# Altium integrated library Altium_WE-XTAL (rev19a).IntLib: 251 symbols (part 1 of 4)
Pins are listed as number, name and electrical type; pins without a type are passive.

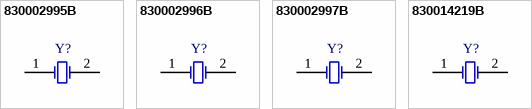
[diagram p0: symbols 830002995B to 830014219B]

## 830002995B
designator Y?, comment 32.768kHz, +/-20ppm, 12.5pF  (value not drawn)
WE-XTAL Quartz Crystal, size WATCH, 32.768kHz, +/-20ppm, 12.5pF; Part Number: 830002995B; ComponentLink1Description: Manufacturer; ComponentLink1URL: http://www.we-online.de; ComponentLink2Description: Datasheet; ComponentLink2URL: https://katalog.we-online.com/pbs/datasheet/830002995B.pdf; Published Date: March 2019; Publisher: Wurth Elektronik; Size: WATCH; Frequency Stability: -; Operating Temperature: -40 up to +85degC; Mounting Technology: THT; Packaging: Bulk; Load Capacitance: 12.5pF; Frequency Tolerance: +/-20ppm; Frequency: 32.768kHz
footprint WE-XTAL_WATCH_3x8.2
pins: 1 OSC1, 2 OSC2

## 830002996B
designator Y?, comment 32.768kHz, +/-15ppm, 12.5pF  (value not drawn)
WE-XTAL Quartz Crystal, size WATCH, 32.768kHz, +/-15ppm, 12.5pF; Part Number: 830002996B; ComponentLink1Description: Manufacturer; ComponentLink1URL: http://www.we-online.de; ComponentLink2Description: Datasheet; ComponentLink2URL: https://katalog.we-online.com/pbs/datasheet/830002996B.pdf; Published Date: March 2019; Publisher: Wurth Elektronik; Size: WATCH; Frequency Stability: -; Operating Temperature: -40 up to +85degC; Mounting Technology: THT; Packaging: Bulk; Load Capacitance: 12.5pF; Frequency Tolerance: +/-15ppm; Frequency: 32.768kHz
footprint WE-XTAL_WATCH_3x8.2
pins: 1 OSC1, 2 OSC2

## 830002997B
designator Y?, comment 32.768kHz, +/-20ppm, 12.5pF  (value not drawn)
WE-XTAL Quartz Crystal, size WATCH, 32.768kHz, +/-20ppm, 12.5pF; Part Number: 830002997B; ComponentLink1Description: Manufacturer; ComponentLink1URL: http://www.we-online.de; ComponentLink2Description: Datasheet; ComponentLink2URL: https://katalog.we-online.com/pbs/datasheet/830002997B.pdf; Published Date: March 2019; Publisher: Wurth Elektronik; Size: WATCH; Frequency Stability: -; Operating Temperature: -40 up to +85degC; Mounting Technology: THT; Packaging: Bulk; Load Capacitance: 12.5pF; Frequency Tolerance: +/-20ppm; Frequency: 32.768kHz
footprint WE-XTAL_WATCH_2x6.2
pins: 1 OSC1, 2 OSC2

## 830014219B
designator Y?, comment 32.768kHz, +/-20ppm, 6pF  (value not drawn)
WE-XTAL Quartz Crystal, size WATCH, 32.768kHz, +/-20ppm, 6pF; Part Number: 830014219B; ComponentLink1Description: Manufacturer; ComponentLink1URL: http://www.we-online.de; ComponentLink2Description: Datasheet; ComponentLink2URL: https://katalog.we-online.com/pbs/datasheet/830014219B.pdf; Published Date: March 2019; Publisher: Wurth Elektronik; Size: WATCH; Frequency Stability: -; Operating Temperature: -40 up to +85degC; Mounting Technology: THT; Packaging: Bulk; Load Capacitance: 6pF; Frequency Tolerance: +/-20ppm; Frequency: 32.768kHz
footprint WE-XTAL_WATCH_2x6.2
pins: 1 OSC1, 2 OSC2


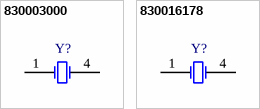
[diagram p1: symbols 830003000 to 830016178]

## 830003000
designator Y?, comment 32.768kHz, +/-20ppm, 12.5pF  (value not drawn)
WE-XTAL Quartz Crystal, size 85SMX, 32.768kHz, +/-20ppm, 12.5pF; Part Number: 830003000; ComponentLink1Description: Manufacturer; ComponentLink1URL: http://www.we-online.de; ComponentLink2Description: Datasheet; ComponentLink2URL: https://katalog.we-online.com/pbs/datasheet/830003000.pdf; Published Date: March 2019; Publisher: Wurth Elektronik; Size: 85SMX; Frequency Stability: -; Operating Temperature: -40 up to +85degC; Mounting Technology: SMT; Packaging: Tape and Reel; Load Capacitance: 12.5pF; Frequency Tolerance: +/-20ppm; Frequency: 32.768kHz
footprint WE-XTAL_85SMX
pins: 1 OSC1, 4 OSC2

## 830016178
designator Y?, comment 32.768kHz, +/-20ppm, 6pF  (value not drawn)
WE-XTAL Quartz Crystal, size 85SMX, 32.768kHz, +/-20ppm, 6pF; Part Number: 830016178; ComponentLink1Description: Manufacturer; ComponentLink1URL: http://www.we-online.de; ComponentLink2Description: Datasheet; ComponentLink2URL: https://katalog.we-online.com/pbs/datasheet/830016178.pdf; Published Date: March 2019; Publisher: Wurth Elektronik; Size: 85SMX; Frequency Stability: -; Operating Temperature: -40 up to +85degC; Mounting Technology: SMT; Packaging: Tape and Reel; Load Capacitance: 6pF; Frequency Tolerance: +/-20ppm; Frequency: 32.768kHz
footprint WE-XTAL_85SMX
pins: 1 OSC1, 4 OSC2


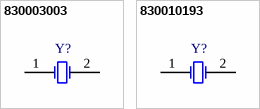
[diagram p2: symbols 830003003 to 830010193]

## 830003003
designator Y?, comment 32.768kHz, +/-20ppm, 12.5pF  (value not drawn)
WE-XTAL Quartz Crystal, size 91SMX, 32.768kHz, +/-20ppm, 12.5pF; Part Number: 830003003; ComponentLink1Description: Manufacturer; ComponentLink1URL: http://www.we-online.de; ComponentLink2Description: Datasheet; ComponentLink2URL: https://katalog.we-online.com/pbs/datasheet/830003003.pdf; Published Date: March 2019; Publisher: Wurth Elektronik; Size: 91SMX; Frequency Stability: -; Operating Temperature: -40 up to +85degC; Mounting Technology: SMT; Packaging: Tape and Reel; Load Capacitance: 12.5pF; Frequency Tolerance: +/-20ppm; Frequency: 32.768kHz
footprint WE-XTAL_91SMX
pins: 1 OSC1, 2 OSC2

## 830010193
designator Y?, comment 32.768kHz, +/-20ppm, 6pF  (value not drawn)
WE-XTAL Quartz Crystal, size 91SMX, 32.768kHz, +/-20ppm, 6pF; Part Number: 830010193; ComponentLink1Description: Manufacturer; ComponentLink1URL: http://www.we-online.de; ComponentLink2Description: Datasheet; ComponentLink2URL: https://katalog.we-online.com/pbs/datasheet/830010193.pdf; Published Date: March 2019; Publisher: Wurth Elektronik; Size: 91SMX; Frequency Stability: -; Operating Temperature: -40 up to +85degC; Mounting Technology: SMT; Packaging: Tape and Reel; Load Capacitance: 6pF; Frequency Tolerance: +/-20ppm; Frequency: 32.768kHz
footprint WE-XTAL_91SMX
pins: 1 OSC1, 2 OSC2


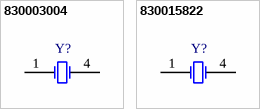
[diagram p3: symbols 830003004 to 830015822]

## 830003004
designator Y?, comment 32.768kHz, +/-20ppm, 12.5pF  (value not drawn)
WE-XTAL Quartz Crystal, size 90SMX, 32.768kHz, +/-20ppm, 12.5pF; Part Number: 830003004; ComponentLink1Description: Manufacturer; ComponentLink1URL: http://www.we-online.de; ComponentLink2Description: Datasheet; ComponentLink2URL: https://katalog.we-online.com/pbs/datasheet/830003004.pdf; Published Date: March 2019; Publisher: Wurth Elektronik; Size: 90SMX; Frequency Stability: -; Operating Temperature: -40 up to +85degC; Mounting Technology: SMT; Packaging: Tape and Reel; Load Capacitance: 12.5pF; Frequency Tolerance: +/-20ppm; Frequency: 32.768kHz
footprint WE-XTAL_90SMX
pins: 1 OSC1, 4 OSC2

## 830015822
designator Y?, comment 32.768kHz, +/-20ppm, 6pF  (value not drawn)
WE-XTAL Quartz Crystal, size 90SMX, 32.768kHz, +/-20ppm, 6pF; Part Number: 830015822; ComponentLink1Description: Manufacturer; ComponentLink1URL: http://www.we-online.de; ComponentLink2Description: Datasheet; ComponentLink2URL: https://katalog.we-online.com/pbs/datasheet/830015822.pdf; Published Date: March 2019; Publisher: Wurth Elektronik; Size: 90SMX; Frequency Stability: -; Operating Temperature: -40 up to +85degC; Mounting Technology: SMT; Packaging: Tape and Reel; Load Capacitance: 6pF; Frequency Tolerance: +/-20ppm; Frequency: 32.768kHz
footprint WE-XTAL_90SMX
pins: 1 OSC1, 4 OSC2


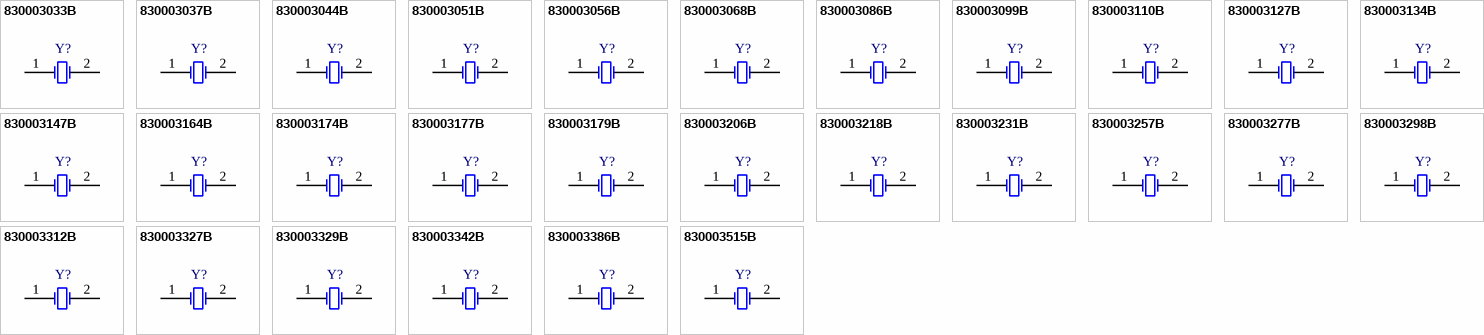
[diagram p4: symbols 830003033B to 830003515B]

## 830003033B
designator Y?, comment 1.8432MHz, +/-20ppm, 30pF  (value not drawn)
WE-XTAL Quartz Crystal, size HC49, 1.8432MHz, +/-20ppm, 30pF; Part Number: 830003033B; Frequency Stability: 50ppm; ComponentLink1Description: Manufacturer; ComponentLink1URL: http://www.we-online.de; ComponentLink2Description: Datasheet; ComponentLink2URL: https://katalog.we-online.com/pbs/datasheet/830003033B.pdf; Published Date: March 2019; Publisher: Wurth Elektronik; Size: HC49; Operating Temperature: -10 up to +60degC; Mounting Technology: THT; Packaging: Bulk; Load Capacitance: 30pF; Frequency Tolerance: +/-20ppm; Frequency: 1.8432MHz
footprint WE-XTAL_HC49
pins: 1 OSC1, 2 OSC2

## 830003037B
designator Y?, comment 2MHz, +/-50ppm, 20pF  (value not drawn)
WE-XTAL Quartz Crystal, size HC49, 2MHz, +/-50ppm, 20pF; Part Number: 830003037B; Frequency Stability: 100ppm; ComponentLink1Description: Manufacturer; ComponentLink1URL: http://www.we-online.de; ComponentLink2Description: Datasheet; ComponentLink2URL: https://katalog.we-online.com/pbs/datasheet/830003037B.pdf; Published Date: March 2019; Publisher: Wurth Elektronik; Size: HC49; Operating Temperature: 0 up to +50degC; Mounting Technology: THT; Packaging: Bulk; Load Capacitance: 20pF; Frequency Tolerance: +/-50ppm; Frequency: 2MHz
footprint WE-XTAL_HC49
pins: 1 OSC1, 2 OSC2

## 830003044B
designator Y?, comment 2.4576MHz, +/-20ppm, 30pF  (value not drawn)
WE-XTAL Quartz Crystal, size HC49, 2.4576MHz, +/-20ppm, 30pF; Part Number: 830003044B; Frequency Stability: 50ppm; ComponentLink1Description: Manufacturer; ComponentLink1URL: http://www.we-online.de; ComponentLink2Description: Datasheet; ComponentLink2URL: https://katalog.we-online.com/pbs/datasheet/830003044B.pdf; Published Date: March 2019; Publisher: Wurth Elektronik; Size: HC49; Operating Temperature: -10 up to +60degC; Mounting Technology: THT; Packaging: Bulk; Load Capacitance: 30pF; Frequency Tolerance: +/-20ppm; Frequency: 2.4576MHz
footprint WE-XTAL_HC49
pins: 1 OSC1, 2 OSC2

## 830003051B
designator Y?, comment 3.2768MHz, +/-20ppm, 12pF  (value not drawn)
WE-XTAL Quartz Crystal, size HC49, 3.2768MHz, +/-20ppm, 12pF; Part Number: 830003051B; Frequency Stability: 30ppm; ComponentLink1Description: Manufacturer; ComponentLink1URL: http://www.we-online.de; ComponentLink2Description: Datasheet; ComponentLink2URL: https://katalog.we-online.com/pbs/datasheet/830003051B.pdf; Published Date: March 2019; Publisher: Wurth Elektronik; Size: HC49; Operating Temperature: -10 up to +60degC; Mounting Technology: THT; Packaging: Bulk; Load Capacitance: 12pF; Frequency Tolerance: +/-20ppm; Frequency: 3.2768MHz
footprint WE-XTAL_HC49
pins: 1 OSC1, 2 OSC2

## 830003056B
designator Y?, comment 3.579545MHz, +/-20ppm, 20pF  (value not drawn)
WE-XTAL Quartz Crystal, size HC49, 3.579545MHz, +/-20ppm, 20pF; Part Number: 830003056B; Frequency Stability: 50ppm; ComponentLink1Description: Manufacturer; ComponentLink1URL: http://www.we-online.de; ComponentLink2Description: Datasheet; ComponentLink2URL: https://katalog.we-online.com/pbs/datasheet/830003056B.pdf; Published Date: March 2019; Publisher: Wurth Elektronik; Size: HC49; Operating Temperature: -10 up to +60degC; Mounting Technology: THT; Packaging: Bulk; Load Capacitance: 20pF; Frequency Tolerance: +/-20ppm; Frequency: 3.579545MHz
footprint WE-XTAL_HC49
pins: 1 OSC1, 2 OSC2

## 830003068B
designator Y?, comment 4MHz, +/-20ppm, 30pF  (value not drawn)
WE-XTAL Quartz Crystal, size HC49, 4MHz, +/-20ppm, 30pF; Part Number: 830003068B; Frequency Stability: 50ppm; ComponentLink1Description: Manufacturer; ComponentLink1URL: http://www.we-online.de; ComponentLink2Description: Datasheet; ComponentLink2URL: https://katalog.we-online.com/pbs/datasheet/830003068B.pdf; Published Date: March 2019; Publisher: Wurth Elektronik; Size: HC49; Operating Temperature: -10 up to +60degC; Mounting Technology: THT; Packaging: Bulk; Load Capacitance: 30pF; Frequency Tolerance: +/-20ppm; Frequency: 4MHz
footprint WE-XTAL_HC49
pins: 1 OSC1, 2 OSC2

## 830003086B
designator Y?, comment 4.194304MHz, +/-20ppm, 12pF  (value not drawn)
WE-XTAL Quartz Crystal, size HC49, 4.194304MHz, +/-20ppm, 12pF; Part Number: 830003086B; Frequency Stability: 30ppm; ComponentLink1Description: Manufacturer; ComponentLink1URL: http://www.we-online.de; ComponentLink2Description: Datasheet; ComponentLink2URL: https://katalog.we-online.com/pbs/datasheet/830003086B.pdf; Published Date: March 2019; Publisher: Wurth Elektronik; Size: HC49; Operating Temperature: -10 up to +60degC; Mounting Technology: THT; Packaging: Bulk; Load Capacitance: 12pF; Frequency Tolerance: +/-20ppm; Frequency: 4.194304MHz
footprint WE-XTAL_HC49
pins: 1 OSC1, 2 OSC2

## 830003099B
designator Y?, comment 4.433619MHz, +/-20ppm, 20pF  (value not drawn)
WE-XTAL Quartz Crystal, size HC49, 4.433619MHz, +/-20ppm, 20pF; Part Number: 830003099B; Frequency Stability: 30ppm; ComponentLink1Description: Manufacturer; ComponentLink1URL: http://www.we-online.de; ComponentLink2Description: Datasheet; ComponentLink2URL: https://katalog.we-online.com/pbs/datasheet/830003099B.pdf; Published Date: March 2019; Publisher: Wurth Elektronik; Size: HC49; Operating Temperature: -10 up to +60degC; Mounting Technology: THT; Packaging: Bulk; Load Capacitance: 20pF; Frequency Tolerance: +/-20ppm; Frequency: 4.433619MHz
footprint WE-XTAL_HC49
pins: 1 OSC1, 2 OSC2

## 830003110B
designator Y?, comment 4.9152MHz, +/-20ppm, 30pF  (value not drawn)
WE-XTAL Quartz Crystal, size HC49, 4.9152MHz, +/-20ppm, 30pF; Part Number: 830003110B; Frequency Stability: 50ppm; ComponentLink1Description: Manufacturer; ComponentLink1URL: http://www.we-online.de; ComponentLink2Description: Datasheet; ComponentLink2URL: https://katalog.we-online.com/pbs/datasheet/830003110B.pdf; Published Date: March 2019; Publisher: Wurth Elektronik; Size: HC49; Operating Temperature: -10 up to +60degC; Mounting Technology: THT; Packaging: Bulk; Load Capacitance: 30pF; Frequency Tolerance: +/-20ppm; Frequency: 4.9152MHz
footprint WE-XTAL_HC49
pins: 1 OSC1, 2 OSC2

## 830003127B
designator Y?, comment 6MHz, +/-20ppm, 30pF  (value not drawn)
WE-XTAL Quartz Crystal, size HC49, 6MHz, +/-20ppm, 30pF; Part Number: 830003127B; Frequency Stability: 50ppm; ComponentLink1Description: Manufacturer; ComponentLink1URL: http://www.we-online.de; ComponentLink2Description: Datasheet; ComponentLink2URL: https://katalog.we-online.com/pbs/datasheet/830003127B.pdf; Published Date: March 2019; Publisher: Wurth Elektronik; Size: HC49; Operating Temperature: -10 up to +60degC; Mounting Technology: THT; Packaging: Bulk; Load Capacitance: 30pF; Frequency Tolerance: +/-20ppm; Frequency: 6MHz
footprint WE-XTAL_HC49
pins: 1 OSC1, 2 OSC2

## 830003134B
designator Y?, comment 6.144MHz, +/-20ppm, 30pF  (value not drawn)
WE-XTAL Quartz Crystal, size HC49, 6.144MHz, +/-20ppm, 30pF; Part Number: 830003134B; Frequency Stability: 50ppm; ComponentLink1Description: Manufacturer; ComponentLink1URL: http://www.we-online.de; ComponentLink2Description: Datasheet; ComponentLink2URL: https://katalog.we-online.com/pbs/datasheet/830003134B.pdf; Published Date: March 2019; Publisher: Wurth Elektronik; Size: HC49; Operating Temperature: -10 up to +60degC; Mounting Technology: THT; Packaging: Bulk; Load Capacitance: 30pF; Frequency Tolerance: +/-20ppm; Frequency: 6.144MHz
footprint WE-XTAL_HC49
pins: 1 OSC1, 2 OSC2

## 830003147B
designator Y?, comment 8MHz, +/-20ppm, 30pF  (value not drawn)
WE-XTAL Quartz Crystal, size HC49, 8MHz, +/-20ppm, 30pF; Part Number: 830003147B; Frequency Stability: 50ppm; ComponentLink1Description: Manufacturer; ComponentLink1URL: http://www.we-online.de; ComponentLink2Description: Datasheet; ComponentLink2URL: https://katalog.we-online.com/pbs/datasheet/830003147B.pdf; Published Date: March 2019; Publisher: Wurth Elektronik; Size: HC49; Operating Temperature: -10 up to +60degC; Mounting Technology: THT; Packaging: Bulk; Load Capacitance: 30pF; Frequency Tolerance: +/-20ppm; Frequency: 8MHz
footprint WE-XTAL_HC49
pins: 1 OSC1, 2 OSC2

## 830003164B
designator Y?, comment 10MHz, +/-20ppm, 30pF  (value not drawn)
WE-XTAL Quartz Crystal, size HC49, 10MHz, +/-20ppm, 30pF; Part Number: 830003164B; Frequency Stability: 50ppm; ComponentLink1Description: Manufacturer; ComponentLink1URL: http://www.we-online.de; ComponentLink2Description: Datasheet; ComponentLink2URL: https://katalog.we-online.com/pbs/datasheet/830003164B.pdf; Published Date: March 2019; Publisher: Wurth Elektronik; Size: HC49; Operating Temperature: -10 up to +60degC; Mounting Technology: THT; Packaging: Bulk; Load Capacitance: 30pF; Frequency Tolerance: +/-20ppm; Frequency: 10MHz
footprint WE-XTAL_HC49
pins: 1 OSC1, 2 OSC2

## 830003174B
designator Y?, comment 18.432MHz, +/-20ppm  (value not drawn)
WE-XTAL Quartz Crystal, size HC49, 18.432MHz, +/-20ppm; Part Number: 830003174B; Frequency Stability: 50ppm; Load Capacitance: –; ComponentLink1Description: Manufacturer; ComponentLink1URL: http://www.we-online.de; ComponentLink2Description: Datasheet; ComponentLink2URL: https://katalog.we-online.com/pbs/datasheet/830003174B.pdf; Published Date: March 2019; Publisher: Wurth Elektronik; Size: HC49; Operating Temperature: -10 up to +60degC; Mounting Technology: THT; Packaging: Bulk; Frequency Tolerance: +/-20ppm; Frequency: 18.432MHz
footprint WE-XTAL_HC49
pins: 1 OSC1, 2 OSC2

## 830003177B
designator Y?, comment 20MHz, +/-20ppm, 30pF  (value not drawn)
WE-XTAL Quartz Crystal, size HC49, 20MHz, +/-20ppm, 30pF; Part Number: 830003177B; Frequency Stability: 50ppm; ComponentLink1Description: Manufacturer; ComponentLink1URL: http://www.we-online.de; ComponentLink2Description: Datasheet; ComponentLink2URL: https://katalog.we-online.com/pbs/datasheet/830003177B.pdf; Published Date: March 2019; Publisher: Wurth Elektronik; Size: HC49; Operating Temperature: -10 up to +60degC; Mounting Technology: THT; Packaging: Bulk; Load Capacitance: 30pF; Frequency Tolerance: +/-20ppm; Frequency: 20MHz
footprint WE-XTAL_HC49
pins: 1 OSC1, 2 OSC2

## 830003179B
designator Y?, comment 20MHz, +/-20ppm  (value not drawn)
WE-XTAL Quartz Crystal, size HC49, 20MHz, +/-20ppm; Part Number: 830003179B; Frequency Stability: 30ppm; Load Capacitance: –; ComponentLink1Description: Manufacturer; ComponentLink1URL: http://www.we-online.de; ComponentLink2Description: Datasheet; ComponentLink2URL: https://katalog.we-online.com/pbs/datasheet/830003179B.pdf; Published Date: March 2019; Publisher: Wurth Elektronik; Size: HC49; Operating Temperature: -10 up to +60degC; Mounting Technology: THT; Packaging: Bulk; Frequency Tolerance: +/-20ppm; Frequency: 20MHz
footprint WE-XTAL_HC49
pins: 1 OSC1, 2 OSC2

## 830003206B
designator Y?, comment 12MHz, +/-20ppm, 30pF  (value not drawn)
WE-XTAL Quartz Crystal, size HC49, 12MHz, +/-20ppm, 30pF; Part Number: 830003206B; Frequency Stability: 30ppm; ComponentLink1Description: Manufacturer; ComponentLink1URL: http://www.we-online.de; ComponentLink2Description: Datasheet; ComponentLink2URL: https://katalog.we-online.com/pbs/datasheet/830003206B.pdf; Published Date: March 2019; Publisher: Wurth Elektronik; Size: HC49; Operating Temperature: -10 up to +60degC; Mounting Technology: THT; Packaging: Bulk; Load Capacitance: 30pF; Frequency Tolerance: +/-20ppm; Frequency: 12MHz
footprint WE-XTAL_HC49
pins: 1 OSC1, 2 OSC2

## 830003218B
designator Y?, comment 14.7456MHz, +/-20ppm, 30pF  (value not drawn)
WE-XTAL Quartz Crystal, size HC49, 14.7456MHz, +/-20ppm, 30pF; Part Number: 830003218B; Frequency Stability: 30ppm; ComponentLink1Description: Manufacturer; ComponentLink1URL: http://www.we-online.de; ComponentLink2Description: Datasheet; ComponentLink2URL: https://katalog.we-online.com/pbs/datasheet/830003218B.pdf; Published Date: March 2019; Publisher: Wurth Elektronik; Size: HC49; Operating Temperature: -10 up to +60degC; Mounting Technology: THT; Packaging: Bulk; Load Capacitance: 30pF; Frequency Tolerance: +/-20ppm; Frequency: 14.7456MHz
footprint WE-XTAL_HC49
pins: 1 OSC1, 2 OSC2

## 830003231B
designator Y?, comment 16MHz, +/-20ppm, 30pF  (value not drawn)
WE-XTAL Quartz Crystal, size HC49, 16MHz, +/-20ppm, 30pF; Part Number: 830003231B; Frequency Stability: 30ppm; ComponentLink1Description: Manufacturer; ComponentLink1URL: http://www.we-online.de; ComponentLink2Description: Datasheet; ComponentLink2URL: https://katalog.we-online.com/pbs/datasheet/830003231B.pdf; Published Date: March 2019; Publisher: Wurth Elektronik; Size: HC49; Operating Temperature: -10 up to +60degC; Mounting Technology: THT; Packaging: Bulk; Load Capacitance: 30pF; Frequency Tolerance: +/-20ppm; Frequency: 16MHz
footprint WE-XTAL_HC49
pins: 1 OSC1, 2 OSC2

## 830003257B
designator Y?, comment 3.6864MHz, +/-20ppm, 30pF  (value not drawn)
WE-XTAL Quartz Crystal, size HC49, 3.6864MHz, +/-20ppm, 30pF; Part Number: 830003257B; Frequency Stability: 50ppm; ComponentLink1Description: Manufacturer; ComponentLink1URL: http://www.we-online.de; ComponentLink2Description: Datasheet; ComponentLink2URL: https://katalog.we-online.com/pbs/datasheet/830003257B.pdf; Published Date: March 2019; Publisher: Wurth Elektronik; Size: HC49; Operating Temperature: -10 up to +60degC; Mounting Technology: THT; Packaging: Bulk; Load Capacitance: 30pF; Frequency Tolerance: +/-20ppm; Frequency: 3.6864MHz
footprint WE-XTAL_HC49
pins: 1 OSC1, 2 OSC2

## 830003277B
designator Y?, comment 9.8304MHz, +/-20ppm, 30pF  (value not drawn)
WE-XTAL Quartz Crystal, size HC49, 9.8304MHz, +/-20ppm, 30pF; Part Number: 830003277B; Frequency Stability: 50ppm; ComponentLink1Description: Manufacturer; ComponentLink1URL: http://www.we-online.de; ComponentLink2Description: Datasheet; ComponentLink2URL: https://katalog.we-online.com/pbs/datasheet/830003277B.pdf; Published Date: March 2019; Publisher: Wurth Elektronik; Size: HC49; Operating Temperature: -10 up to +60degC; Mounting Technology: THT; Packaging: Bulk; Load Capacitance: 30pF; Frequency Tolerance: +/-20ppm; Frequency: 9.8304MHz
footprint WE-XTAL_HC49
pins: 1 OSC1, 2 OSC2

## 830003298B
designator Y?, comment 17.73447MHz, +/-20ppm, 30pF  (value not drawn)
WE-XTAL Quartz Crystal, size HC49, 17.73447MHz, +/-20ppm, 30pF; Part Number: 830003298B; Frequency Stability: 30ppm; ComponentLink1Description: Manufacturer; ComponentLink1URL: http://www.we-online.de; ComponentLink2Description: Datasheet; ComponentLink2URL: https://katalog.we-online.com/pbs/datasheet/830003298B.pdf; Published Date: March 2019; Publisher: Wurth Elektronik; Size: HC49; Operating Temperature: -10 up to +60degC; Mounting Technology: THT; Packaging: Bulk; Load Capacitance: 30pF; Frequency Tolerance: +/-20ppm; Frequency: 17.73447MHz
footprint WE-XTAL_HC49
pins: 1 OSC1, 2 OSC2

## 830003312B
designator Y?, comment 22.1184MHz, +/-20ppm  (value not drawn)
WE-XTAL Quartz Crystal, size HC49, 22.1184MHz, +/-20ppm; Part Number: 830003312B; Frequency Stability: 50ppm; Load Capacitance: –; ComponentLink1Description: Manufacturer; ComponentLink1URL: http://www.we-online.de; ComponentLink2Description: Datasheet; ComponentLink2URL: https://katalog.we-online.com/pbs/datasheet/830003312B.pdf; Published Date: March 2019; Publisher: Wurth Elektronik; Size: HC49; Operating Temperature: -10 up to +60degC; Mounting Technology: THT; Packaging: Bulk; Frequency Tolerance: +/-20ppm; Frequency: 22.1184MHz
footprint WE-XTAL_HC49
pins: 1 OSC1, 2 OSC2

## 830003327B
designator Y?, comment 11MHz, +/-20ppm, 30pF  (value not drawn)
WE-XTAL Quartz Crystal, size HC49, 11MHz, +/-20ppm, 30pF; Part Number: 830003327B; Frequency Stability: 30ppm; ComponentLink1Description: Manufacturer; ComponentLink1URL: http://www.we-online.de; ComponentLink2Description: Datasheet; ComponentLink2URL: https://katalog.we-online.com/pbs/datasheet/830003327B.pdf; Published Date: March 2019; Publisher: Wurth Elektronik; Size: HC49; Operating Temperature: -10 up to +60degC; Mounting Technology: THT; Packaging: Bulk; Load Capacitance: 30pF; Frequency Tolerance: +/-20ppm; Frequency: 11MHz
footprint WE-XTAL_HC49
pins: 1 OSC1, 2 OSC2

## 830003329B
designator Y?, comment 7.3728MHz, +/-20ppm, 30pF  (value not drawn)
WE-XTAL Quartz Crystal, size HC49, 7.3728MHz, +/-20ppm, 30pF; Part Number: 830003329B; Frequency Stability: 50ppm; ComponentLink1Description: Manufacturer; ComponentLink1URL: http://www.we-online.de; ComponentLink2Description: Datasheet; ComponentLink2URL: https://katalog.we-online.com/pbs/datasheet/830003329B.pdf; Published Date: March 2019; Publisher: Wurth Elektronik; Size: HC49; Operating Temperature: -10 up to +60degC; Mounting Technology: THT; Packaging: Bulk; Load Capacitance: 30pF; Frequency Tolerance: +/-20ppm; Frequency: 7.3728MHz
footprint WE-XTAL_HC49
pins: 1 OSC1, 2 OSC2

## 830003342B
designator Y?, comment 30MHz, +/-20ppm  (value not drawn)
WE-XTAL Quartz Crystal, size HC49, 30MHz, +/-20ppm; Part Number: 830003342B; Frequency Stability: 50ppm; Load Capacitance: –; ComponentLink1Description: Manufacturer; ComponentLink1URL: http://www.we-online.de; ComponentLink2Description: Datasheet; ComponentLink2URL: https://katalog.we-online.com/pbs/datasheet/830003342B.pdf; Published Date: March 2019; Publisher: Wurth Elektronik; Size: HC49; Operating Temperature: -10 up to +60degC; Mounting Technology: THT; Packaging: Bulk; Frequency Tolerance: +/-20ppm; Frequency: 30MHz
footprint WE-XTAL_HC49
pins: 1 OSC1, 2 OSC2

## 830003386B
designator Y?, comment 24.576MHz, +/-20ppm, 30pF  (value not drawn)
WE-XTAL Quartz Crystal, size HC49, 24.576MHz, +/-20ppm, 30pF; Part Number: 830003386B; Frequency Stability: 50ppm; ComponentLink1Description: Manufacturer; ComponentLink1URL: http://www.we-online.de; ComponentLink2Description: Datasheet; ComponentLink2URL: https://katalog.we-online.com/pbs/datasheet/830003386B.pdf; Published Date: March 2019; Publisher: Wurth Elektronik; Size: HC49; Operating Temperature: -10 up to +60degC; Mounting Technology: THT; Packaging: Bulk; Load Capacitance: 30pF; Frequency Tolerance: +/-20ppm; Frequency: 24.576MHz
footprint WE-XTAL_HC49
pins: 1 OSC1, 2 OSC2

## 830003515B
designator Y?, comment 11.0592MHz, +/-20ppm, 20pF  (value not drawn)
WE-XTAL Quartz Crystal, size HC49, 11.0592MHz, +/-20ppm, 20pF; Part Number: 830003515B; Frequency Stability: 30ppm; ComponentLink1Description: Manufacturer; ComponentLink1URL: http://www.we-online.de; ComponentLink2Description: Datasheet; ComponentLink2URL: https://katalog.we-online.com/pbs/datasheet/830003515B.pdf; Published Date: March 2019; Publisher: Wurth Elektronik; Size: HC49; Operating Temperature: -10 up to +60degC; Mounting Technology: THT; Packaging: Bulk; Load Capacitance: 20pF; Frequency Tolerance: +/-20ppm; Frequency: 11.0592MHz
footprint WE-XTAL_HC49
pins: 1 OSC1, 2 OSC2


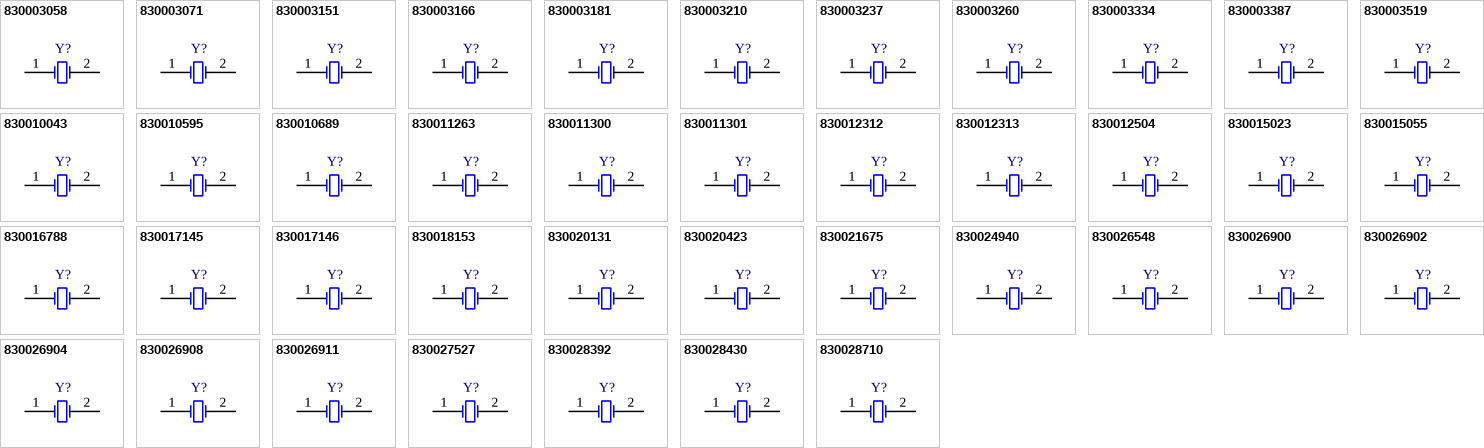
[diagram p5: symbols 830003058 to 830028710]

## 830003058
designator Y?, comment 3.579545MHz, +/-30ppm, 16pF  (value not drawn)
WE-XTAL Quartz Crystal, size HC49-4HSMX, 3.579545MHz, +/-30ppm, 16pF; Part Number: 830003058; Frequency Stability: 50ppm; ComponentLink1Description: Manufacturer; ComponentLink1URL: http://www.we-online.de; ComponentLink2Description: Datasheet; ComponentLink2URL: https://katalog.we-online.com/pbs/datasheet/830003058.pdf; Published Date: March 2019; Publisher: Wurth Elektronik; Size: HC49-4HSMX; Operating Temperature: -10 up to +60degC; Mounting Technology: SMT; Packaging: Tape and Reel; Load Capacitance: 16pF; Frequency Tolerance: +/-30ppm; Frequency: 3.579545MHz
footprint WE-XTAL_HC49/4HSMX
pins: 1 OSC1, 2 OSC2

## 830003071
designator Y?, comment 4MHz, +/-30ppm, 16pF  (value not drawn)
WE-XTAL Quartz Crystal, size HC49-4HSMX, 4MHz, +/-30ppm, 16pF; Part Number: 830003071; Frequency Stability: 50ppm; ComponentLink1Description: Manufacturer; ComponentLink1URL: http://www.we-online.de; ComponentLink2Description: Datasheet; ComponentLink2URL: https://katalog.we-online.com/pbs/datasheet/830003071.pdf; Published Date: March 2019; Publisher: Wurth Elektronik; Size: HC49-4HSMX; Operating Temperature: -10 up to +60degC; Mounting Technology: SMT; Packaging: Tape and Reel; Load Capacitance: 16pF; Frequency Tolerance: +/-30ppm; Frequency: 4MHz
footprint WE-XTAL_HC49/4HSMX
pins: 1 OSC1, 2 OSC2

## 830003151
designator Y?, comment 8MHz, +/-30ppm, 16pF  (value not drawn)
WE-XTAL Quartz Crystal, size HC49-4HSMX, 8MHz, +/-30ppm, 16pF; Part Number: 830003151; Frequency Stability: 50ppm; ComponentLink1Description: Manufacturer; ComponentLink1URL: http://www.we-online.de; ComponentLink2Description: Datasheet; ComponentLink2URL: https://katalog.we-online.com/pbs/datasheet/830003151.pdf; Published Date: March 2019; Publisher: Wurth Elektronik; Size: HC49-4HSMX; Operating Temperature: -10 up to +60degC; Mounting Technology: SMT; Packaging: Tape and Reel; Load Capacitance: 16pF; Frequency Tolerance: +/-30ppm; Frequency: 8MHz
footprint WE-XTAL_HC49/4HSMX
pins: 1 OSC1, 2 OSC2

## 830003166
designator Y?, comment 10MHz, +/-30ppm, 16pF  (value not drawn)
WE-XTAL Quartz Crystal, size HC49-4HSMX, 10MHz, +/-30ppm, 16pF; Part Number: 830003166; Frequency Stability: 50ppm; ComponentLink1Description: Manufacturer; ComponentLink1URL: http://www.we-online.de; ComponentLink2Description: Datasheet; ComponentLink2URL: https://katalog.we-online.com/pbs/datasheet/830003166.pdf; Published Date: March 2019; Publisher: Wurth Elektronik; Size: HC49-4HSMX; Operating Temperature: -10 up to +60degC; Mounting Technology: SMT; Packaging: Tape and Reel; Load Capacitance: 16pF; Frequency Tolerance: +/-30ppm; Frequency: 10MHz
footprint WE-XTAL_HC49/4HSMX
pins: 1 OSC1, 2 OSC2

## 830003181
designator Y?, comment 20MHz, +/-30ppm, 16pF  (value not drawn)
WE-XTAL Quartz Crystal, size HC49-4HSMX, 20MHz, +/-30ppm, 16pF; Part Number: 830003181; Frequency Stability: 50ppm; ComponentLink1Description: Manufacturer; ComponentLink1URL: http://www.we-online.de; ComponentLink2Description: Datasheet; ComponentLink2URL: https://katalog.we-online.com/pbs/datasheet/830003181.pdf; Published Date: March 2019; Publisher: Wurth Elektronik; Size: HC49-4HSMX; Operating Temperature: -10 up to +60degC; Mounting Technology: SMT; Packaging: Tape and Reel; Load Capacitance: 16pF; Frequency Tolerance: +/-30ppm; Frequency: 20MHz
footprint WE-XTAL_HC49/4HSMX
pins: 1 OSC1, 2 OSC2

## 830003210
designator Y?, comment 12MHz, +/-30ppm, 16pF  (value not drawn)
WE-XTAL Quartz Crystal, size HC49-4HSMX, 12MHz, +/-30ppm, 16pF; Part Number: 830003210; Frequency Stability: 50ppm; ComponentLink1Description: Manufacturer; ComponentLink1URL: http://www.we-online.de; ComponentLink2Description: Datasheet; ComponentLink2URL: https://katalog.we-online.com/pbs/datasheet/830003210.pdf; Published Date: March 2019; Publisher: Wurth Elektronik; Size: HC49-4HSMX; Operating Temperature: -10 up to +60degC; Mounting Technology: SMT; Packaging: Tape and Reel; Load Capacitance: 16pF; Frequency Tolerance: +/-30ppm; Frequency: 12MHz
footprint WE-XTAL_HC49/4HSMX
pins: 1 OSC1, 2 OSC2

## 830003237
designator Y?, comment 16MHz, +/-30ppm, 16pF  (value not drawn)
WE-XTAL Quartz Crystal, size HC49-4HSMX, 16MHz, +/-30ppm, 16pF; Part Number: 830003237; Frequency Stability: 50ppm; ComponentLink1Description: Manufacturer; ComponentLink1URL: http://www.we-online.de; ComponentLink2Description: Datasheet; ComponentLink2URL: https://katalog.we-online.com/pbs/datasheet/830003237.pdf; Published Date: March 2019; Publisher: Wurth Elektronik; Size: HC49-4HSMX; Operating Temperature: -10 up to +60degC; Mounting Technology: SMT; Packaging: Tape and Reel; Load Capacitance: 16pF; Frequency Tolerance: +/-30ppm; Frequency: 16MHz
footprint WE-XTAL_HC49/4HSMX
pins: 1 OSC1, 2 OSC2

## 830003260
designator Y?, comment 3.6864MHz, +/-30ppm, 16pF  (value not drawn)
WE-XTAL Quartz Crystal, size HC49-4HSMX, 3.6864MHz, +/-30ppm, 16pF; Part Number: 830003260; Frequency Stability: 50ppm; ComponentLink1Description: Manufacturer; ComponentLink1URL: http://www.we-online.de; ComponentLink2Description: Datasheet; ComponentLink2URL: https://katalog.we-online.com/pbs/datasheet/830003260.pdf; Published Date: March 2019; Publisher: Wurth Elektronik; Size: HC49-4HSMX; Operating Temperature: -10 up to +60degC; Mounting Technology: SMT; Packaging: Tape and Reel; Load Capacitance: 16pF; Frequency Tolerance: +/-30ppm; Frequency: 3.6864MHz
footprint WE-XTAL_HC49/4HSMX
pins: 1 OSC1, 2 OSC2

## 830003334
designator Y?, comment 7.3728MHz, +/-30ppm, 16pF  (value not drawn)
WE-XTAL Quartz Crystal, size HC49-4HSMX, 7.3728MHz, +/-30ppm, 16pF; Part Number: 830003334; Frequency Stability: 50ppm; ComponentLink1Description: Manufacturer; ComponentLink1URL: http://www.we-online.de; ComponentLink2Description: Datasheet; ComponentLink2URL: https://katalog.we-online.com/pbs/datasheet/830003334.pdf; Published Date: March 2019; Publisher: Wurth Elektronik; Size: HC49-4HSMX; Operating Temperature: -10 up to +60degC; Mounting Technology: SMT; Packaging: Tape and Reel; Load Capacitance: 16pF; Frequency Tolerance: +/-30ppm; Frequency: 7.3728MHz
footprint WE-XTAL_HC49/4HSMX
pins: 1 OSC1, 2 OSC2

## 830003387
designator Y?, comment 24.576MHz, +/-30ppm, 20pF  (value not drawn)
WE-XTAL Quartz Crystal, size HC49-4HSMX, 24.576MHz, +/-30ppm, 20pF; Part Number: 830003387; Frequency Stability: 50ppm; ComponentLink1Description: Manufacturer; ComponentLink1URL: http://www.we-online.de; ComponentLink2Description: Datasheet; ComponentLink2URL: https://katalog.we-online.com/pbs/datasheet/830003387.pdf; Published Date: March 2019; Publisher: Wurth Elektronik; Size: HC49-4HSMX; Operating Temperature: -10 up to +60degC; Mounting Technology: SMT; Packaging: Tape and Reel; Load Capacitance: 20pF; Frequency Tolerance: +/-30ppm; Frequency: 24.576MHz
footprint WE-XTAL_HC49/4HSMX
pins: 1 OSC1, 2 OSC2

## 830003519
designator Y?, comment 11.0592MHz, +/-30ppm, 16pF  (value not drawn)
WE-XTAL Quartz Crystal, size HC49-4HSMX, 11.0592MHz, +/-30ppm, 16pF; Part Number: 830003519; Frequency Stability: 50ppm; ComponentLink1Description: Manufacturer; ComponentLink1URL: http://www.we-online.de; ComponentLink2Description: Datasheet; ComponentLink2URL: https://katalog.we-online.com/pbs/datasheet/830003519.pdf; Published Date: March 2019; Publisher: Wurth Elektronik; Size: HC49-4HSMX; Operating Temperature: -10 up to +60degC; Mounting Technology: SMT; Packaging: Tape and Reel; Load Capacitance: 16pF; Frequency Tolerance: +/-30ppm; Frequency: 11.0592MHz
footprint WE-XTAL_HC49/4HSMX
pins: 1 OSC1, 2 OSC2

## 830010043
designator Y?, comment 12MHz, +/-30ppm, 30pF  (value not drawn)
WE-XTAL Quartz Crystal, size HC49-4HSMX, 12MHz, +/-30ppm, 30pF; Part Number: 830010043; Frequency Stability: 50ppm; ComponentLink1Description: Manufacturer; ComponentLink1URL: http://www.we-online.de; ComponentLink2Description: Datasheet; ComponentLink2URL: https://katalog.we-online.com/pbs/datasheet/830010043.pdf; Published Date: March 2019; Publisher: Wurth Elektronik; Size: HC49-4HSMX; Operating Temperature: -10 up to +60degC; Mounting Technology: SMT; Packaging: Tape and Reel; Load Capacitance: 30pF; Frequency Tolerance: +/-30ppm; Frequency: 12MHz
footprint WE-XTAL_HC49/4HSMX
pins: 1 OSC1, 2 OSC2

## 830010595
designator Y?, comment 25MHz, +/-30ppm, 16pF  (value not drawn)
WE-XTAL Quartz Crystal, size HC49-4HSMX, 25MHz, +/-30ppm, 16pF; Part Number: 830010595; Frequency Stability: 50ppm; ComponentLink1Description: Manufacturer; ComponentLink1URL: http://www.we-online.de; ComponentLink2Description: Datasheet; ComponentLink2URL: https://katalog.we-online.com/pbs/datasheet/830010595.pdf; Published Date: March 2019; Publisher: Wurth Elektronik; Size: HC49-4HSMX; Operating Temperature: -10 up to +60degC; Mounting Technology: SMT; Packaging: Tape and Reel; Load Capacitance: 16pF; Frequency Tolerance: +/-30ppm; Frequency: 25MHz
footprint WE-XTAL_HC49/4HSMX
pins: 1 OSC1, 2 OSC2

## 830010689
designator Y?, comment 7.3728MHz, +/-30ppm, 30pF  (value not drawn)
WE-XTAL Quartz Crystal, size HC49-4HSMX, 7.3728MHz, +/-30ppm, 30pF; Part Number: 830010689; Frequency Stability: 50ppm; ComponentLink1Description: Manufacturer; ComponentLink1URL: http://www.we-online.de; ComponentLink2Description: Datasheet; ComponentLink2URL: https://katalog.we-online.com/pbs/datasheet/830010689.pdf; Published Date: March 2019; Publisher: Wurth Elektronik; Size: HC49-4HSMX; Operating Temperature: -10 up to +60degC; Mounting Technology: SMT; Packaging: Tape and Reel; Load Capacitance: 30pF; Frequency Tolerance: +/-30ppm; Frequency: 7.3728MHz
footprint WE-XTAL_HC49/4HSMX
pins: 1 OSC1, 2 OSC2

## 830011263
designator Y?, comment 16MHz, +/-30ppm, 30pF  (value not drawn)
WE-XTAL Quartz Crystal, size HC49-4HSMX, 16MHz, +/-30ppm, 30pF; Part Number: 830011263; Frequency Stability: 50ppm; ComponentLink1Description: Manufacturer; ComponentLink1URL: http://www.we-online.de; ComponentLink2Description: Datasheet; ComponentLink2URL: https://katalog.we-online.com/pbs/datasheet/830011263.pdf; Published Date: March 2019; Publisher: Wurth Elektronik; Size: HC49-4HSMX; Operating Temperature: -10 up to +60degC; Mounting Technology: SMT; Packaging: Tape and Reel; Load Capacitance: 30pF; Frequency Tolerance: +/-30ppm; Frequency: 16MHz
footprint WE-XTAL_HC49/4HSMX
pins: 1 OSC1, 2 OSC2

## 830011300
designator Y?, comment 4MHz, +/-30ppm, 30pF  (value not drawn)
WE-XTAL Quartz Crystal, size HC49-4HSMX, 4MHz, +/-30ppm, 30pF; Part Number: 830011300; Frequency Stability: 50ppm; ComponentLink1Description: Manufacturer; ComponentLink1URL: http://www.we-online.de; ComponentLink2Description: Datasheet; ComponentLink2URL: https://katalog.we-online.com/pbs/datasheet/830011300.pdf; Published Date: March 2019; Publisher: Wurth Elektronik; Size: HC49-4HSMX; Operating Temperature: -10 up to +60degC; Mounting Technology: SMT; Packaging: Tape and Reel; Load Capacitance: 30pF; Frequency Tolerance: +/-30ppm; Frequency: 4MHz
footprint WE-XTAL_HC49/4HSMX
pins: 1 OSC1, 2 OSC2

## 830011301
designator Y?, comment 8MHz, +/-30ppm, 30pF  (value not drawn)
WE-XTAL Quartz Crystal, size HC49-4HSMX, 8MHz, +/-30ppm, 30pF; Part Number: 830011301; Frequency Stability: 50ppm; ComponentLink1Description: Manufacturer; ComponentLink1URL: http://www.we-online.de; ComponentLink2Description: Datasheet; ComponentLink2URL: https://katalog.we-online.com/pbs/datasheet/830011301.pdf; Published Date: March 2019; Publisher: Wurth Elektronik; Size: HC49-4HSMX; Operating Temperature: -10 up to +60degC; Mounting Technology: SMT; Packaging: Tape and Reel; Load Capacitance: 30pF; Frequency Tolerance: +/-30ppm; Frequency: 8MHz
footprint WE-XTAL_HC49/4HSMX
pins: 1 OSC1, 2 OSC2

## 830012312
designator Y?, comment 5MHz, +/-30ppm, 30pF  (value not drawn)
WE-XTAL Quartz Crystal, size HC49-4HSMX, 5MHz, +/-30ppm, 30pF; Part Number: 830012312; Frequency Stability: 50ppm; ComponentLink1Description: Manufacturer; ComponentLink1URL: http://www.we-online.de; ComponentLink2Description: Datasheet; ComponentLink2URL: https://katalog.we-online.com/pbs/datasheet/830012312.pdf; Published Date: March 2019; Publisher: Wurth Elektronik; Size: HC49-4HSMX; Operating Temperature: -10 up to +60degC; Mounting Technology: SMT; Packaging: Tape and Reel; Load Capacitance: 30pF; Frequency Tolerance: +/-30ppm; Frequency: 5MHz
footprint WE-XTAL_HC49/4HSMX
pins: 1 OSC1, 2 OSC2

## 830012313
designator Y?, comment 14.7456MHz, +/-30ppm, 30pF  (value not drawn)
WE-XTAL Quartz Crystal, size HC49-4HSMX, 14.7456MHz, +/-30ppm, 30pF; Part Number: 830012313; Frequency Stability: 50ppm; ComponentLink1Description: Manufacturer; ComponentLink1URL: http://www.we-online.de; ComponentLink2Description: Datasheet; ComponentLink2URL: https://katalog.we-online.com/pbs/datasheet/830012313.pdf; Published Date: March 2019; Publisher: Wurth Elektronik; Size: HC49-4HSMX; Operating Temperature: -10 up to +60degC; Mounting Technology: SMT; Packaging: Tape and Reel; Load Capacitance: 30pF; Frequency Tolerance: +/-30ppm; Frequency: 14.7456MHz
footprint WE-XTAL_HC49/4HSMX
pins: 1 OSC1, 2 OSC2

## 830012504
designator Y?, comment 24MHz, +/-30ppm, 16pF  (value not drawn)
WE-XTAL Quartz Crystal, size HC49-4HSMX, 24MHz, +/-30ppm, 16pF; Part Number: 830012504; Frequency Stability: 50ppm; ComponentLink1Description: Manufacturer; ComponentLink1URL: http://www.we-online.de; ComponentLink2Description: Datasheet; ComponentLink2URL: https://katalog.we-online.com/pbs/datasheet/830012504.pdf; Published Date: March 2019; Publisher: Wurth Elektronik; Size: HC49-4HSMX; Operating Temperature: -10 up to +60degC; Mounting Technology: SMT; Packaging: Tape and Reel; Load Capacitance: 16pF; Frequency Tolerance: +/-30ppm; Frequency: 24MHz
footprint WE-XTAL_HC49/4HSMX
pins: 1 OSC1, 2 OSC2

## 830015023
designator Y?, comment 18.432MHz, +/-30ppm, 30pF  (value not drawn)
WE-XTAL Quartz Crystal, size HC49-4HSMX, 18.432MHz, +/-30ppm, 30pF; Part Number: 830015023; Frequency Stability: 50ppm; ComponentLink1Description: Manufacturer; ComponentLink1URL: http://www.we-online.de; ComponentLink2Description: Datasheet; ComponentLink2URL: https://katalog.we-online.com/pbs/datasheet/830015023.pdf; Published Date: March 2019; Publisher: Wurth Elektronik; Size: HC49-4HSMX; Operating Temperature: -20 up to +70degC; Mounting Technology: SMT; Packaging: Tape and Reel; Load Capacitance: 30pF; Frequency Tolerance: +/-30ppm; Frequency: 18.432MHz
footprint WE-XTAL_HC49/4HSMX
pins: 1 OSC1, 2 OSC2

## 830015055
designator Y?, comment 16MHz, +/-30ppm, 20pF  (value not drawn)
WE-XTAL Quartz Crystal, size HC49-4HSMX, 16MHz, +/-30ppm, 20pF; Part Number: 830015055; Frequency Stability: 50ppm; ComponentLink1Description: Manufacturer; ComponentLink1URL: http://www.we-online.de; ComponentLink2Description: Datasheet; ComponentLink2URL: https://katalog.we-online.com/pbs/datasheet/830015055.pdf; Published Date: March 2019; Publisher: Wurth Elektronik; Size: HC49-4HSMX; Operating Temperature: -10 up to +60degC; Mounting Technology: SMT; Packaging: Tape and Reel; Load Capacitance: 20pF; Frequency Tolerance: +/-30ppm; Frequency: 16MHz
footprint WE-XTAL_HC49/4HSMX
pins: 1 OSC1, 2 OSC2

## 830016788
designator Y?, comment 6MHz, +/-30ppm, 30pF  (value not drawn)
WE-XTAL Quartz Crystal, size HC49-4HSMX, 6MHz, +/-30ppm, 30pF; Part Number: 830016788; Frequency Stability: 50ppm; ComponentLink1Description: Manufacturer; ComponentLink1URL: http://www.we-online.de; ComponentLink2Description: Datasheet; ComponentLink2URL: https://katalog.we-online.com/pbs/datasheet/830016788.pdf; Published Date: March 2019; Publisher: Wurth Elektronik; Size: HC49-4HSMX; Operating Temperature: -10 up to +60degC; Mounting Technology: SMT; Packaging: Tape and Reel; Load Capacitance: 30pF; Frequency Tolerance: +/-30ppm; Frequency: 6MHz
footprint WE-XTAL_HC49/4HSMX
pins: 1 OSC1, 2 OSC2

## 830017145
designator Y?, comment 10MHz, +/-30ppm, 30pF  (value not drawn)
WE-XTAL Quartz Crystal, size HC49-4HSMX, 10MHz, +/-30ppm, 30pF; Part Number: 830017145; Frequency Stability: 50ppm; ComponentLink1Description: Manufacturer; ComponentLink1URL: http://www.we-online.de; ComponentLink2Description: Datasheet; ComponentLink2URL: https://katalog.we-online.com/pbs/datasheet/830017145.pdf; Published Date: March 2019; Publisher: Wurth Elektronik; Size: HC49-4HSMX; Operating Temperature: -10 up to +60degC; Mounting Technology: SMT; Packaging: Tape and Reel; Load Capacitance: 30pF; Frequency Tolerance: +/-30ppm; Frequency: 10MHz
footprint WE-XTAL_HC49/4HSMX
pins: 1 OSC1, 2 OSC2

## 830017146
designator Y?, comment 20MHz, +/-30ppm, 30pF  (value not drawn)
WE-XTAL Quartz Crystal, size HC49-4HSMX, 20MHz, +/-30ppm, 30pF; Part Number: 830017146; Frequency Stability: 50ppm; ComponentLink1Description: Manufacturer; ComponentLink1URL: http://www.we-online.de; ComponentLink2Description: Datasheet; ComponentLink2URL: https://katalog.we-online.com/pbs/datasheet/830017146.pdf; Published Date: March 2019; Publisher: Wurth Elektronik; Size: HC49-4HSMX; Operating Temperature: -10 up to +60degC; Mounting Technology: SMT; Packaging: Tape and Reel; Load Capacitance: 30pF; Frequency Tolerance: +/-30ppm; Frequency: 20MHz
footprint WE-XTAL_HC49/4HSMX
pins: 1 OSC1, 2 OSC2

## 830018153
designator Y?, comment 4.9152MHz, +/-30ppm, 16pF  (value not drawn)
WE-XTAL Quartz Crystal, size HC49-4HSMX, 4.9152MHz, +/-30ppm, 16pF; Part Number: 830018153; Frequency Stability: 50ppm; ComponentLink1Description: Manufacturer; ComponentLink1URL: http://www.we-online.de; ComponentLink2Description: Datasheet; ComponentLink2URL: https://katalog.we-online.com/pbs/datasheet/830018153.pdf; Published Date: March 2019; Publisher: Wurth Elektronik; Size: HC49-4HSMX; Operating Temperature: -10 up to +60degC; Mounting Technology: SMT; Packaging: Tape and Reel; Load Capacitance: 16pF; Frequency Tolerance: +/-30ppm; Frequency: 4.9152MHz
footprint WE-XTAL_HC49/4HSMX
pins: 1 OSC1, 2 OSC2

## 830020131
designator Y?, comment 20MHz, +/-30ppm, 18pF  (value not drawn)
WE-XTAL Quartz Crystal, size HC49-4HSMX, 20MHz, +/-30ppm, 18pF; Part Number: 830020131; Frequency Stability: 50ppm; ComponentLink1Description: Manufacturer; ComponentLink1URL: http://www.we-online.de; ComponentLink2Description: Datasheet; ComponentLink2URL: https://katalog.we-online.com/pbs/datasheet/830020131.pdf; Published Date: March 2019; Publisher: Wurth Elektronik; Size: HC49-4HSMX; Operating Temperature: -20 up to +70degC; Mounting Technology: SMT; Packaging: Tape and Reel; Load Capacitance: 18pF; Frequency Tolerance: +/-30ppm; Frequency: 20MHz
footprint WE-XTAL_HC49/4HSMX
pins: 1 OSC1, 2 OSC2

## 830020423
designator Y?, comment 8MHz, +/-30ppm, 18pF  (value not drawn)
WE-XTAL Quartz Crystal, size HC49-4HSMX, 8MHz, +/-30ppm, 18pF; Part Number: 830020423; Frequency Stability: 50ppm; ComponentLink1Description: Manufacturer; ComponentLink1URL: http://www.we-online.de; ComponentLink2Description: Datasheet; ComponentLink2URL: https://katalog.we-online.com/pbs/datasheet/830020423.pdf; Published Date: March 2019; Publisher: Wurth Elektronik; Size: HC49-4HSMX; Operating Temperature: -20 up to +70degC; Mounting Technology: SMT; Packaging: Tape and Reel; Load Capacitance: 18pF; Frequency Tolerance: +/-30ppm; Frequency: 8MHz
footprint WE-XTAL_HC49/4HSMX
pins: 1 OSC1, 2 OSC2

## 830021675
designator Y?, comment 10MHz, +/-30ppm, 18pF  (value not drawn)
WE-XTAL Quartz Crystal, size HC49-4HSMX, 10MHz, +/-30ppm, 18pF; Part Number: 830021675; Frequency Stability: 50ppm; ComponentLink1Description: Manufacturer; ComponentLink1URL: http://www.we-online.de; ComponentLink2Description: Datasheet; ComponentLink2URL: https://katalog.we-online.com/pbs/datasheet/830021675.pdf; Published Date: March 2019; Publisher: Wurth Elektronik; Size: HC49-4HSMX; Operating Temperature: -20 up to +70degC; Mounting Technology: SMT; Packaging: Tape and Reel; Load Capacitance: 18pF; Frequency Tolerance: +/-30ppm; Frequency: 10MHz
footprint WE-XTAL_HC49/4HSMX
pins: 1 OSC1, 2 OSC2

## 830024940
designator Y?, comment 4MHz, +/-30ppm, 18pF  (value not drawn)
WE-XTAL Quartz Crystal, size HC49-4HSMX, 4MHz, +/-30ppm, 18pF; Part Number: 830024940; Frequency Stability: 50ppm; ComponentLink1Description: Manufacturer; ComponentLink1URL: http://www.we-online.de; ComponentLink2Description: Datasheet; ComponentLink2URL: https://katalog.we-online.com/pbs/datasheet/830024940.pdf; Published Date: March 2019; Publisher: Wurth Elektronik; Size: HC49-4HSMX; Operating Temperature: -20 up to +70degC; Mounting Technology: SMT; Packaging: Tape and Reel; Load Capacitance: 18pF; Frequency Tolerance: +/-30ppm; Frequency: 4MHz
footprint WE-XTAL_HC49/4HSMX
pins: 1 OSC1, 2 OSC2

## 830026548
designator Y?, comment 24MHz, +/-30ppm, 18pF  (value not drawn)
WE-XTAL Quartz Crystal, size HC49-4HSMX, 24MHz, +/-30ppm, 18pF; Part Number: 830026548; Frequency Stability: 50ppm; ComponentLink1Description: Manufacturer; ComponentLink1URL: http://www.we-online.de; ComponentLink2Description: Datasheet; ComponentLink2URL: https://katalog.we-online.com/pbs/datasheet/830026548.pdf; Published Date: March 2019; Publisher: Wurth Elektronik; Size: HC49-4HSMX; Operating Temperature: -20 up to +70degC; Mounting Technology: SMT; Packaging: Tape and Reel; Load Capacitance: 18pF; Frequency Tolerance: +/-30ppm; Frequency: 24MHz
footprint WE-XTAL_HC49/4HSMX
pins: 1 OSC1, 2 OSC2

## 830026900
designator Y?, comment 6MHz, +/-20ppm, 16pF  (value not drawn)
WE-XTAL Quartz Crystal, size HC49-4HSMX, 6MHz, +/-20ppm, 16pF; Part Number: 830026900; Frequency Stability: 50ppm; ComponentLink1Description: Manufacturer; ComponentLink1URL: http://www.we-online.de; ComponentLink2Description: Datasheet; ComponentLink2URL: https://katalog.we-online.com/pbs/datasheet/830026900.pdf; Published Date: March 2019; Publisher: Wurth Elektronik; Size: HC49-4HSMX; Operating Temperature: -10 up to +60degC; Mounting Technology: SMT; Packaging: Tape and Reel; Load Capacitance: 16pF; Frequency Tolerance: +/-20ppm; Frequency: 6MHz
footprint WE-XTAL_HC49/4HSMX
pins: 1 OSC1, 2 OSC2

## 830026902
designator Y?, comment 8.192MHz, +/-20ppm, 16pF  (value not drawn)
WE-XTAL Quartz Crystal, size HC49-4HSMX, 8.192MHz, +/-20ppm, 16pF; Part Number: 830026902; Frequency Stability: 50ppm; ComponentLink1Description: Manufacturer; ComponentLink1URL: http://www.we-online.de; ComponentLink2Description: Datasheet; ComponentLink2URL: https://katalog.we-online.com/pbs/datasheet/830026902.pdf; Published Date: March 2019; Publisher: Wurth Elektronik; Size: HC49-4HSMX; Operating Temperature: -10 up to +60degC; Mounting Technology: SMT; Packaging: Tape and Reel; Load Capacitance: 16pF; Frequency Tolerance: +/-20ppm; Frequency: 8.192MHz
footprint WE-XTAL_HC49/4HSMX
pins: 1 OSC1, 2 OSC2

## 830026904
designator Y?, comment 9.8304MHz, +/-20ppm, 16pF  (value not drawn)
WE-XTAL Quartz Crystal, size HC49-4HSMX, 9.8304MHz, +/-20ppm, 16pF; Part Number: 830026904; Frequency Stability: 50ppm; ComponentLink1Description: Manufacturer; ComponentLink1URL: http://www.we-online.de; ComponentLink2Description: Datasheet; ComponentLink2URL: https://katalog.we-online.com/pbs/datasheet/830026904.pdf; Published Date: March 2019; Publisher: Wurth Elektronik; Size: HC49-4HSMX; Operating Temperature: -10 up to +60degC; Mounting Technology: SMT; Packaging: Tape and Reel; Load Capacitance: 16pF; Frequency Tolerance: +/-20ppm; Frequency: 9.8304MHz
footprint WE-XTAL_HC49/4HSMX
pins: 1 OSC1, 2 OSC2